# EAGLE library part AL422B (library Supernode-DigitalIC)
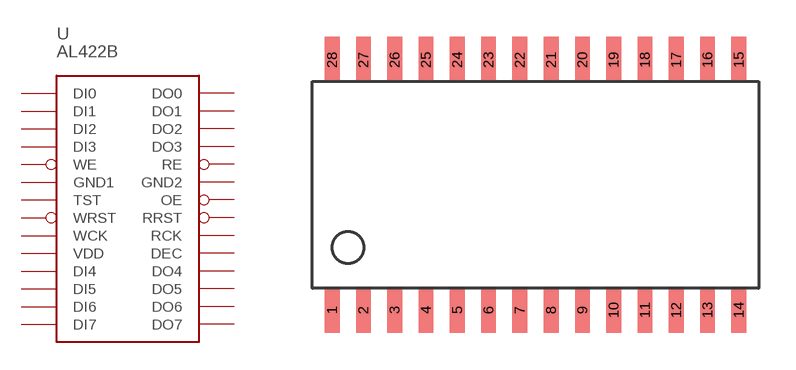
[diagram p0: symbol with the pads of SOP28; footprint SOP28]

Designator prefix U

## AL422B  [SOP28]
1  DI0  in
2  DI1  in
3  DI2  in
4  DI3  in
5  WE  in
6  GND1  pwr
7  TST  in
8  WRST  in
9  WCK  in
10  VDD  pwr
11  DI4  in
12  DI5  in
13  DI6  in
14  DI7  in
15  DO7  out
16  DO6  out
17  DO5  out
18  DO4  out
19  DEC  pwr
20  RCK  out
21  RRST  in
22  OE  in
23  GND2  pwr
24  RE  in
25  DO3  out
26  DO2  out
27  DO1  out
28  DO0  out

## Footprint SOP28 (pad centres in mm)
smd 0.6 x 1.85: 1 -8.255,-5.08; 2 -6.985,-5.08; 3 -5.715,-5.08; 4 -4.445,-5.08; 5 -3.175,-5.08; 6 -1.905,-5.08; 7 -0.635,-5.08; 8 0.635,-5.08; 9 1.905,-5.08; 10 3.175,-5.08; 11 4.445,-5.08; 12 5.715,-5.08; 13 6.985,-5.08; 14 8.255,-5.08; 15 8.255,5.08; 16 6.985,5.08; 17 5.715,5.08; 18 4.445,5.08; 19 3.175,5.08; 20 1.905,5.08; 21 0.635,5.08; 22 -0.635,5.08; 23 -1.905,5.08; 24 -3.175,5.08; 25 -4.445,5.08; 26 -5.715,5.08; 27 -6.985,5.08; 28 -8.255,5.08